# Altium footprint library chip.PcbLib: 21 footprints (part 1 of 2)
Each footprint in its own frame and in the unit in brackets; x right, y up, seen from the top. Pads: shape width x height; smd on the part's side, far side on the other; paste and mask are expansions set on the pad; w line width, h text height; cw(c..) or ccw(c..) is an arc to the next point about the centre after c.
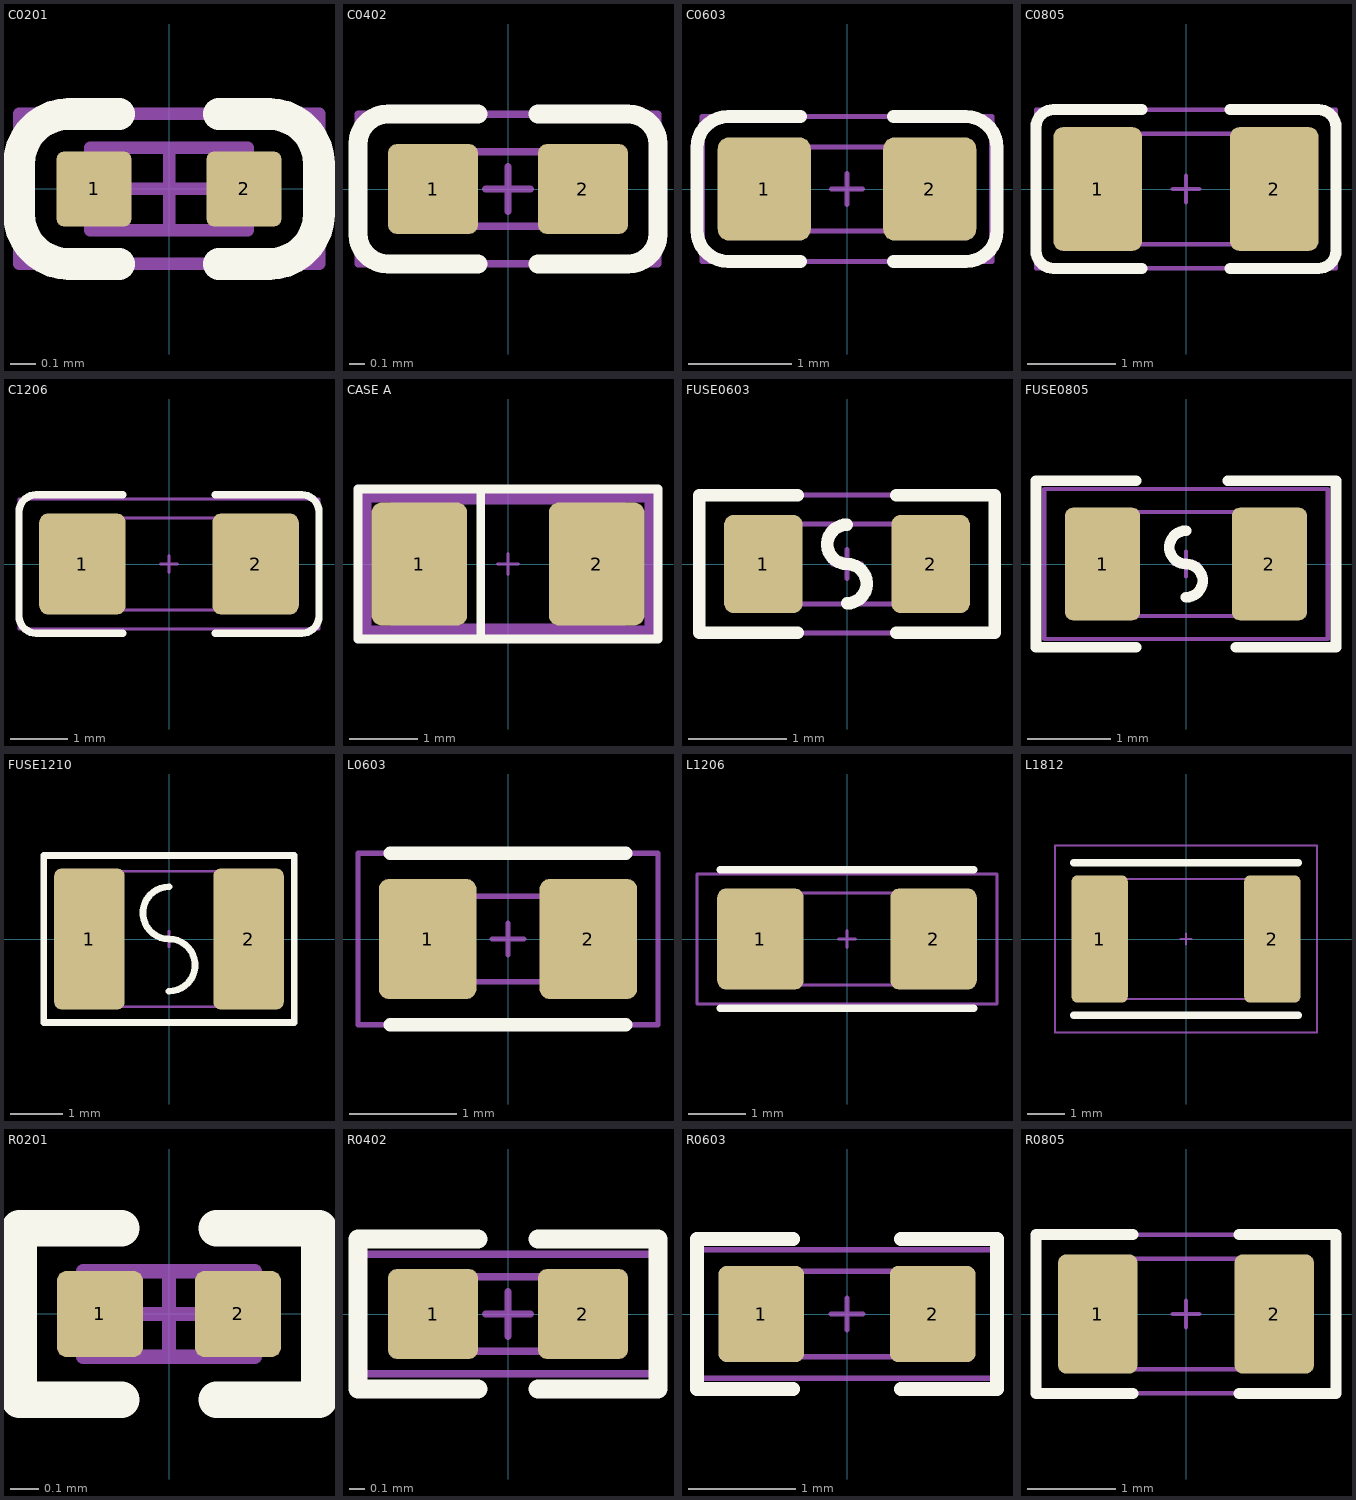
[diagram p0: the footprints below, top view; thin cyan lines are the x and y axes]

## C0201 [mm]
height 0.33
pads (2):
  rrect20% 0.3x0.3 smd mask+0.05: 1(-0.3,0) 2(0.3,0)
Top Overlay:
  lines w0.127: -0.2,-0.3 -0.4,-0.3 cw(c-0.4,-0.1) -0.6,-0.1 -0.6,0.1 cw(c-0.4,0.1) -0.4,0.3 -0.2,0.3 ; 0.2,-0.3 0.4,-0.3 ccw(c0.4,-0.1) 0.6,-0.1 0.6,0.1 ccw(c0.4,0.1) 0.4,0.3 0.2,0.3
Top Assembly:
  lines w0.05: -0.315,-0.165 -0.315,0.165 0.315,0.165 0.315,-0.165 -0.315,-0.165
Top Courtyard:
  lines w0.05: -0.6,-0.3 0.6,-0.3 0.6,0.3 -0.6,0.3 -0.6,-0.3
Top Component Center:
  lines w0.05: -0.15,0 0.15,0 ; 0,-0.15 0,0.15
3D body "C0201.STEP": height 0.3, standoff 0, extent -0.3,-0.15 0.3,0.15

## C0402 [mm]
height 0.56
pads (2):
  rrect20% 0.6x0.6 smd mask+0.05: 1(-0.5,0) 2(0.5,0)
Top Overlay:
  lines w0.127: -0.2,-0.5 -0.8,-0.5 cw(c-0.8,-0.3) -1,-0.3 -1,0.3 cw(c-0.8,0.3) -0.8,0.5 -0.2,0.5 ; 0.2,-0.5 0.8,-0.5 ccw(c0.8,-0.3) 1,-0.3 1,0.3 ccw(c0.8,0.3) 0.8,0.5 0.2,0.5
Top Assembly:
  lines w0.05: -0.5,-0.25 0.5,-0.25 0.5,0.25 -0.5,0.25 -0.5,-0.25
Top Courtyard:
  lines w0.05: -1,-0.5 1,-0.5 1,0.5 -1,0.5 -1,-0.5
Top Component Center:
  lines w0.05: -0.15,0 0.15,0 ; 0,-0.15 0,0.15
3D body "C0402.STEP": height 0.52, standoff 0.02, extent -0.5,-0.25 0.5,0.25

## C0603 [mm]
height 0.86
pads (2):
  rrect25% 0.9x1 smd mask+0.05: 1(-0.8,0) 2(0.8,0)
Top Overlay:
  lines w0.127: -0.45,-0.7 -1.15,-0.7 cw(c-1.15,-0.4) -1.45,-0.4 -1.45,0.4 cw(c-1.15,0.4) -1.15,0.7 -0.45,0.7 ; 0.45,-0.7 1.15,-0.7 ccw(c1.15,-0.4) 1.45,-0.4 1.45,0.4 ccw(c1.15,0.4) 1.15,0.7 0.45,0.7
Top Assembly:
  lines w0.05: -0.8,-0.405 -0.8,0.405 0.8,0.405 0.8,-0.405 -0.8,-0.405
Top Courtyard:
  lines w0.05: -1.4,-0.7 -1.4,0.7 1.4,0.7 1.4,-0.7 -1.4,-0.7
Top Component Center:
  lines w0.05: -0.15,0 0.15,0 ; 0,-0.15 0,0.15
3D body "C0603.STEP": height 0.82, standoff 0.02, extent -0.8,-0.4 0.8,0.4

## C0805 [mm]
height 1.4
pads (2):
  rrect20% 1x1.4 smd mask+0.05: 1(-1,0) 2(1,0)
Top Overlay:
  lines w0.127: -0.5,-0.9 -1.5,-0.9 cw(c-1.5,-0.7) -1.7,-0.7 -1.7,0.7 cw(c-1.5,0.7) -1.5,0.9 -0.5,0.9 ; 0.5,-0.9 1.5,-0.9 ccw(c1.5,-0.7) 1.7,-0.7 1.7,0.7 ccw(c1.5,0.7) 1.5,0.9 0.5,0.9
Top Assembly:
  lines w0.05: -1,-0.625 1,-0.625 1,0.625 -1,0.625 -1,-0.625
Top Courtyard:
  lines w0.05: -1.7,-0.9 1.7,-0.9 1.7,0.9 -1.7,0.9 -1.7,-0.9
Top Component Center:
  lines w0.05: -0.15,0 0.15,0 ; 0,-0.15 0,0.15
3D body "C0805.STEP": height 1.27, standoff 0.02, extent -1,-0.625 1,0.625

## C1206 [mm]
height 1.8
pads (2):
  rrect20% 1.5x1.75 smd mask+0.05: 1(-1.5,0) 2(1.5,0)
Top Overlay:
  lines w0.127: -0.8,-1.2 -2.3,-1.2 cw(c-2.3,-0.9) -2.6,-0.9 -2.6,0.9 cw(c-2.3,0.9) -2.3,1.2 -0.8,1.2 ; 0.8,-1.2 2.3,-1.2 ccw(c2.3,-0.9) 2.6,-0.9 2.6,0.9 ccw(c2.3,0.9) 2.3,1.2 0.8,1.2
Top Assembly:
  lines w0.05: -1.6,-0.8 1.6,-0.8 1.6,0.8 -1.6,0.8 -1.6,-0.8
Top Courtyard:
  lines w0.05: -2.6,-1.125 -2.6,1.125 2.6,1.125 2.6,-1.125 -2.6,-1.125
Top Component Center:
  lines w0.05: -0.15,0 0.15,0 ; 0,-0.15 0,0.15
3D body "C1206.STEP": height 1.62, standoff 0.02, extent -1.6,-0.8 1.6,0.8

## CASE A [mm]
height 1.75
pads (2):
  rrect20% 1.4x1.8 smd mask+0.05: 1(-1.3,0) 2(1.3,0)
Top Overlay:
  lines w0.127: -0.4,-1.1 -0.4,1.1 ; -2.2,-1.1 -2.2,1.1 2.2,1.1 2.2,-1.1 -2.2,-1.1
Top Assembly:
  lines w0.05: -2.1,-1 2.1,-1 2.1,1 -2.1,1 -2.1,-1 ; -1.7,-0.9 1.7,-0.9 1.7,0.9 -1.7,0.9 -1.7,-0.9
Top Courtyard:
  lines w0.2: -2.1,-1 -2.1,1 2.1,1 2.1,-1 -2.1,-1
Top Component Center:
  lines w0.05: -0.15,0 0.15,0 ; 0,-0.15 0,0.15
3D body "Cap_AVX_TAJA476K002RNJ_eec.STEP": height 1.8, standoff 0, extent -1.6,-0.8 1.6,0.8

## FUSE0603 [mm]
height 0.86
pads (2):
  rrect25% 0.8x1 smd mask+0.05: 1(-0.85,0) 2(0.85,0)
Top Overlay:
  lines w0.127: -0.5,-0.7 -1.5,-0.7 -1.5,0.7 -0.5,0.7 ; 0,-0.4 ccw(c0,-0.2) 0,0 cw(c0,0.2) 0,0.4 ; 0.5,-0.7 1.5,-0.7 1.5,0.7 0.5,0.7
Top Assembly:
  lines w0.05: -0.8,-0.405 0.8,-0.405 0.8,0.405 -0.8,0.405 -0.8,-0.405
Top Courtyard:
  lines w0.05: -1.525,-0.7 1.525,-0.7 1.525,0.7 -1.525,0.7 -1.525,-0.7
Top Component Center:
  lines w0.05: -0.15,0 0.15,0 ; 0,-0.15 0,0.15
3D body "Fuse_Littelfuse_0467_375NR_eec.STEP": height 0.25, standoff 0, extent -1.372,-0.645 1.372,0.645

## FUSE0805 [mm]
height 0.5
pads (2):
  rrect20% 0.9x1.35 smd mask+0.05: 1(-1,0) 2(1,0)
Top Overlay:
  lines w0.127: -0.6,-1 -1.8,-1 -1.8,1 -0.6,1 ; 0,-0.4 ccw(c0,-0.2) 0,0 cw(c0,0.2) 0,0.4 ; 0.5,1 1.8,1 1.8,-1 0.6,-1
Top Assembly:
  lines w0.05: -1,-0.625 1,-0.625 1,0.625 -1,0.625 -1,-0.625
Top Courtyard:
  lines w0.05: -1.7,-0.9 -1.7,0.9 1.7,0.9 1.7,-0.9 -1.7,-0.9
Top Component Center:
  lines w0.05: -0.15,0 0.15,0 ; 0,-0.15 0,0.15
3D body "RESC2012.STEP": height 0.5, standoff 0, extent -1,-0.6 1,0.6

## FUSE1210 [mm]
height 1.8
pads (2):
  rrect20% 1.35x2.7 smd mask+0.05: 1(-1.524,0) 2(1.524,0)
Top Overlay:
  lines w0.127: 0,-1 ccw(c0,-0.5) 0,0 cw(c0,0.5) 0,1 ; -2.4,-1.6 2.4,-1.6 2.4,1.6 -2.4,1.6 -2.4,-1.6
Top Assembly:
  lines w0.05: -1.8,-1.3 1.8,-1.3 1.8,1.3 -1.8,1.3 -1.8,-1.3
Top Courtyard:
  lines w0.05: -2.4,-1.6 2.4,-1.6 2.4,1.6 -2.4,1.6 -2.4,-1.6
Top Component Center:
  lines w0.05: -0.15,0 0.15,0 ; 0,-0.15 0,0.15
3D body "Fuse1210.STEP": height 0.67, standoff 0, extent -1.607,-1.287 1.608,1.288

## L0603 [mm]
height 1
pads (2):
  rrect20% 0.91x1.12 smd mask+0.05: 1(-0.75,0) 2(0.75,0)
Top Overlay:
  lines w0.127: -1.1,-0.8 1.1,-0.8 ; -1.1,0.8 1.1,0.8
Top Assembly:
  lines w0.05: -0.825,-0.4 0.8,-0.4 0.8,0.4 -0.825,0.4 -0.825,-0.4
Top Courtyard:
  lines w0.05: -1.4,-0.8 -1.4,0.8 1.4,0.8 1.4,-0.8 -1.4,-0.8
Top Component Center:
  lines w0.05: -0.15,0 0.15,0 ; 0,-0.15 0,0.15
3D body "L_0603.stp": height 0.81, standoff 0.01, extent -0.8,-0.4 0.8,0.4

## L1206 [mm]
height 1.8
pads (2):
  rrect20% 1.5x1.75 smd mask+0.05: 1(-1.5,0) 2(1.5,0)
Top Overlay:
  lines w0.127: -2.2,-1.2 0.8,-1.2 2.2,-1.2 ; -2.2,1.2 0.8,1.2 2.2,1.2
Top Assembly:
  lines w0.05: -1.6,-0.8 1.6,-0.8 1.6,0.8 -1.6,0.8 -1.6,-0.8
Top Courtyard:
  lines w0.05: -2.6,-1.125 -2.6,1.125 2.6,1.125 2.6,-1.125 -2.6,-1.125
Top Component Center:
  lines w0.05: -0.15,0 0.15,0 ; 0,-0.15 0,0.15
3D body "L_1206.stp": height 0.81, standoff 0.01, extent -1.6,-0.8 1.6,0.8

## L1812 [mm]
pads (2):
  rrect20% 1.5x3.4 smd: 1(-2.305,0) 2(2.305,0)
Top Overlay:
  lines w0.2: -3,-2.032 -1.396,-2.032 3,-2.032 ; -3,2.032 1.396,2.032 3,2.032
Top Assembly:
  lines w0.05: -2.25,-1.6 2.25,-1.6 2.25,1.6 -2.25,1.6 -2.25,-1.6
Top Courtyard:
  lines w0.05: -3.5,-2.5 3.5,-2.5 3.5,2.5 -3.5,2.5 -3.5,-2.5
Top Component Center:
  lines w0.05: -0.15,0 0.15,0 ; 0,-0.15 0,0.15
3D body "L_1812.stp": height 1.26, standoff 0.01, extent -2.25,-1.6 2.25,1.6

## R0201 [mm]
pads (2):
  rrect20% 0.3x0.3 smd mask+0.05: 1(-0.242,0) 2(0.242,0)
Top Overlay:
  lines w0.127: -0.166,-0.3 -0.525,-0.3 -0.525,0.3 -0.166,0.3 ; 0.166,-0.3 0.525,-0.3 0.525,0.3 0.166,0.3
Top Assembly:
  lines w0.05: -0.3,-0.15 -0.3,0.15 0.3,0.15 0.3,-0.15 -0.3,-0.15
Top Component Center:
  lines w0.05: -0.15,0 0.15,0 ; 0,-0.15 0,0.15
3D body "R0201.STEP": height 0.23, standoff 0, extent -0.3,-0.15 0.3,0.15

## R0402 [mm]
height 0.35
pads (2):
  rrect20% 0.6x0.6 smd mask+0.05: 1(-0.5,0) 2(0.5,0)
Top Overlay:
  lines w0.127: -0.2,-0.5 -1,-0.5 -1,0.5 -0.2,0.5 ; 0.2,-0.5 1,-0.5 1,0.5 0.2,0.5
Top Assembly:
  lines w0.05: -0.5,-0.25 -0.5,0.25 0.5,0.25 0.5,-0.25 -0.5,-0.25
Top Courtyard:
  lines w0.05: -1,-0.4 -1,0.4 1,0.4 1,-0.4 -1,-0.4
Top Component Center:
  lines w0.05: -0.15,0 0.15,0 ; 0,-0.15 0,0.15
3D body "R0402.STEP": height 0.37, standoff 0.02, extent -0.5,-0.25 0.5,0.25

## R0603 [mm]
height 0.45
pads (2):
  rrect20% 0.8x0.9 smd mask+0.05: 1(-0.8,0) 2(0.8,0)
Top Overlay:
  lines w0.127: -0.5,-0.7 -1.4,-0.7 -1.4,0.7 -0.5,0.7 ; 0.5,-0.7 1.4,-0.7 1.4,0.7 0.5,0.7
Top Assembly:
  lines w0.05: -0.8,-0.4 -0.8,0.4 0.8,0.4 0.8,-0.4 -0.8,-0.4
Top Courtyard:
  lines w0.05: -1.4,-0.6 -1.4,0.6 1.4,0.6 1.4,-0.6 -1.4,-0.6
Top Component Center:
  lines w0.05: -0.15,0 0.15,0 ; 0,-0.15 0,0.15
3D body "R0603.step": height 0.43, standoff -0.02, extent -0.8,-0.4 0.8,0.4

## R0805 [mm]
height 0.5
pads (2):
  rrect20% 0.9x1.35 smd mask+0.05: 1(-1,0) 2(1,0)
Top Overlay:
  lines w0.127: -0.6,-0.9 -1.7,-0.9 -1.7,0.9 -0.6,0.9 ; 0.6,-0.9 1.7,-0.9 1.7,0.9 0.6,0.9
Top Assembly:
  lines w0.05: -1,-0.625 -1,0.625 1,0.625 1,-0.625 -1,-0.625
Top Courtyard:
  lines w0.05: -1.7,-0.9 1.7,-0.9 1.7,0.9 -1.7,0.9 -1.7,-0.9
Top Component Center:
  lines w0.05: -0.15,0 0.15,0 ; 0,-0.15 0,0.15
3D body "R0805.step": height 0.53, standoff -0.02, extent -1,-0.625 1,0.625